# EAGLE library part PIC18(L)F2XK50-? (library Gekkio-microchip)
28-Pin, Low-Power, High-Performance Microcontrollers with XLP Technology
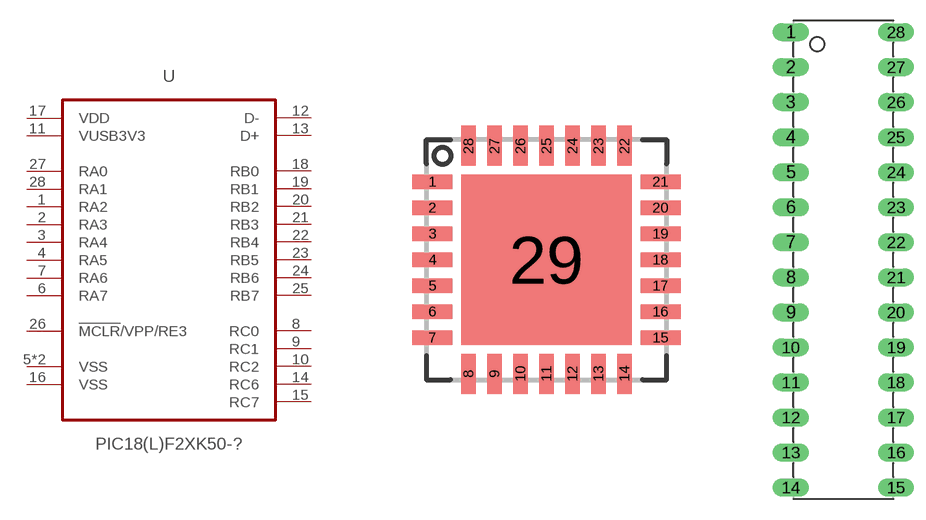
[diagram p2: symbol with the pads of QFN28(ML); footprints QFN28(ML), SPDIP28(SP/PJ)]

Designator prefix U

## PIC18(L)F2XK50-ML  [QFN28(ML)]
1  RA2
2  RA3
3  RA4
4  RA5
5  VSS  pwr
6  RA7
7  RA6
8  RC0
9  RC1
10  RC2
11  VUSB3V3  pwr
12  D-  pas
13  D+  pas
14  RC6
15  RC7
16  VSS  pwr
17  VDD  pwr
18  RB0
19  RB1
20  RB2
21  RB3
22  RB4
23  RB5
24  RB6
25  RB7
26  !MCLR!/VPP/RE3
27  RA0
28  RA1
29  VSS  pwr

## PIC18(L)F2XK50-SP  [SPDIP28(SP/PJ)]
1  !MCLR!/VPP/RE3
2  RA0
3  RA1
4  RA2
5  RA3
6  RA4
7  RA5
8  VSS  pwr
9  RA7
10  RA6
11  RC0
12  RC1
13  RC2
14  VUSB3V3  pwr
15  D-  pas
16  D+  pas
17  RC6
18  RC7
19  VSS  pwr
20  VDD  pwr
21  RB0
22  RB1
23  RB2
24  RB3
25  RB4
26  RB5
27  RB6
28  RB7

## PIC18(L)F2XK50-SO  [SOIC28(SO)]
Pads as for SPDIP28(SP/PJ)

## PIC18(L)F2XK50-SS  [SSOP28(SS)]
Pads as for SPDIP28(SP/PJ)

## Footprint QFN28(ML) (pad centres in mm)
QFN28 (ML) 28-Lead Plastic Quad Flat, No Lead Package (ML) - 6x6 mm Body [QFN] With 0.55 mm Terminal Length Not tested! Source: Microchip Packaging Specification, revision CE
smd 1 x 0.37: 1 -2.85,1.95; 2 -2.85,1.3; 3 -2.85,0.65; 4 -2.85,0; 5 -2.85,-0.65; 6 -2.85,-1.3; 7 -2.85,-1.95; 15 2.85,-1.95; 16 2.85,-1.3; 17 2.85,-0.65; 18 2.85,0; 19 2.85,0.65; 20 2.85,1.3; 21 2.85,1.95
smd 0.37 x 1: 8 -1.95,-2.85; 9 -1.3,-2.85; 10 -0.65,-2.85; 11 0,-2.85; 12 0.65,-2.85; 13 1.3,-2.85; 14 1.95,-2.85; 22 1.95,2.85; 23 1.3,2.85; 24 0.65,2.85; 25 0,2.85; 26 -0.65,2.85; 27 -1.3,2.85; 28 -1.95,2.85
smd 4.25 x 4.25: 29 0,0

## Footprint SPDIP28(SP/PJ) (pad centres in mm)
SPDIP28 (SP/PJ) 28-Lead Skinny Plastic Dual In-Line (SP) - 300 mil Body [SPDIP] Not tested! Source: Microchip Packaging Specification, revision CE
drill 0.813 long: 1 -3.81,16.51; 2 -3.81,13.97; 3 -3.81,11.43; 4 -3.81,8.89; 5 -3.81,6.35; 6 -3.81,3.81; 7 -3.81,1.27; 8 -3.81,-1.27; 9 -3.81,-3.81; 10 -3.81,-6.35; 11 -3.81,-8.89; 12 -3.81,-11.43; 13 -3.81,-13.97; 14 -3.81,-16.51; 15 3.81,-16.51; 16 3.81,-13.97; 17 3.81,-11.43; 18 3.81,-8.89; 19 3.81,-6.35; 20 3.81,-3.81; 21 3.81,-1.27; 22 3.81,1.27; 23 3.81,3.81; 24 3.81,6.35; 25 3.81,8.89; 26 3.81,11.43; 27 3.81,13.97; 28 3.81,16.51

## Footprint SOIC28(SO) (pad centres in mm)
SOIC28 (SO) 28-Lead Plastic Small Outline (SO) - Wide, 7.50 mm Body [SOIC] Not tested! Source: Microchip Packaging Specification, revision CE
smd 0.6 x 2: 1 -8.255,-4.7; 2 -6.985,-4.7; 3 -5.715,-4.7; 4 -4.445,-4.7; 5 -3.175,-4.7; 6 -1.905,-4.7; 7 -0.635,-4.7; 8 0.635,-4.7; 9 1.905,-4.7; 10 3.175,-4.7; 11 4.445,-4.7; 12 5.715,-4.7; 13 6.985,-4.7; 14 8.255,-4.7; 15 8.255,4.7; 16 6.985,4.7; 17 5.715,4.7; 18 4.445,4.7; 19 3.175,4.7; 20 1.905,4.7; 21 0.635,4.7; 22 -0.635,4.7; 23 -1.905,4.7; 24 -3.175,4.7; 25 -4.445,4.7; 26 -5.715,4.7; 27 -6.985,4.7; 28 -8.255,4.7

## Footprint SSOP28(SS) (pad centres in mm)
SSOP28 (SS) 28-Lead Plastic Shrink Small Outline (SS) - 5.30 mm Body [SSOP] Not tested! Source: Microchip Packaging Specification, revision CE
smd 0.45 x 1.75: 1 -4.225,-3.6; 2 -3.575,-3.6; 3 -2.925,-3.6; 4 -2.275,-3.6; 5 -1.625,-3.6; 6 -0.975,-3.6; 7 -0.325,-3.6; 8 0.325,-3.6; 9 0.975,-3.6; 10 1.625,-3.6; 11 2.275,-3.6; 12 2.925,-3.6; 13 3.575,-3.6; 14 4.225,-3.6; 15 4.225,3.6; 16 3.575,3.6; 17 2.925,3.6; 18 2.275,3.6; 19 1.625,3.6; 20 0.975,3.6; 21 0.325,3.6; 22 -0.325,3.6; 23 -0.975,3.6; 24 -1.625,3.6; 25 -2.275,3.6; 26 -2.925,3.6; 27 -3.575,3.6; 28 -4.225,3.6